# Altium schematic symbol library L7805CDT-TR.SchLib: 1 symbol
Pins are listed as number, name and electrical type; pins without a type are passive.

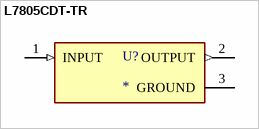
[diagram p0: symbol L7805CDT-TR]

## L7805CDT-TR
designator U?
L7805 Series 4.8 V 1.5 A Three Terminal Positive Voltage Regulator - TO-252-3; MF: {'manufacturer': u'STMicroelectronics'}; MP: L7805CDT-TR; Package: None; Price: None; Value: *; Availability: Unavailable
footprint VREG_L7805CDT-TR
pins: 1 INPUT (in), 2 OUTPUT (out), 3 GROUND (power)